# EAGLE library part 4042 (library _mtvl.40xx)
Quad clocked D LATCH
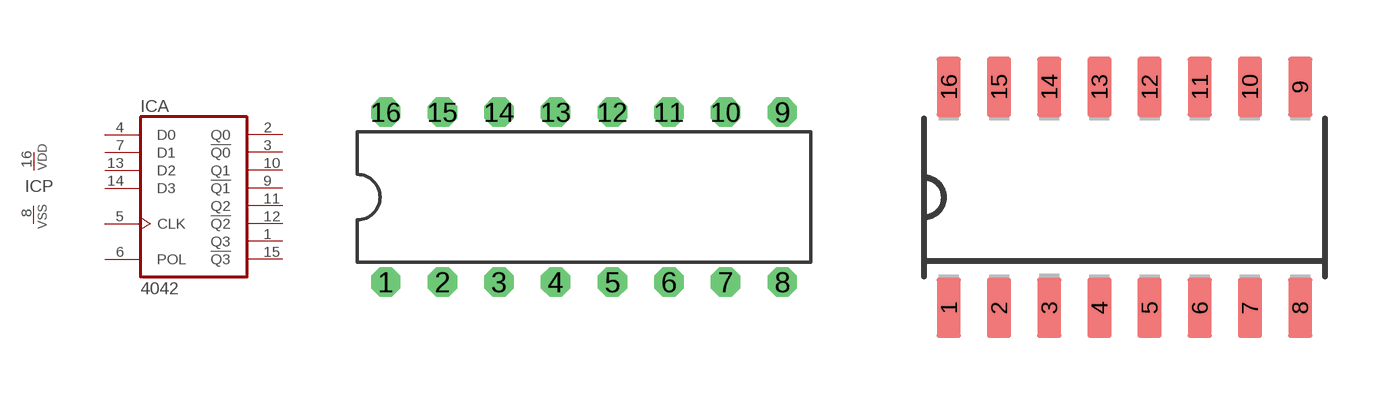
[diagram p27: symbol with the pads of DIL16; footprints DIL16, SO16]

Designator prefix IC; gates A=4042 P=PWRN

## 4042N  [DIL16]
1  A:Q3  out
2  A:Q0  out
3  A:!Q0  out
4  A:D0  in
5  A:CLK  in
6  A:POL  in
7  A:D1  in
8  P:VSS  pwr
9  A:!Q1  out
10  A:Q1  out
11  A:Q2  out
12  A:!Q2  out
13  A:D2  in
14  A:D3  in
15  A:!Q3  out
16  P:VDD  pwr

## 4042D  [SO16]
Pads as for DIL16

## Footprint DIL16 (pad centres in mm)
Dual In Line Package
drill 0.813 octagon: 1 -8.89,-3.81; 2 -6.35,-3.81; 3 -3.81,-3.81; 4 -1.27,-3.81; 5 1.27,-3.81; 6 3.81,-3.81; 7 6.35,-3.81; 8 8.89,-3.81; 9 8.89,3.81; 10 6.35,3.81; 11 3.81,3.81; 12 1.27,3.81; 13 -1.27,3.81; 14 -3.81,3.81; 15 -6.35,3.81; 16 -8.89,3.81

## Footprint SO16 (pad centres in mm)
Small Outline package 150 mil
smd 0.61 x 1.524: 1 -4.445,-2.794; 2 -3.175,-2.794; 3 -1.905,-2.794; 4 -0.635,-2.794; 5 0.635,-2.794; 6 1.905,-2.794; 7 3.175,-2.794; 8 4.445,-2.794; 9 4.445,2.794; 10 3.175,2.794; 11 1.905,2.794; 12 0.635,2.794; 13 -0.635,2.794; 14 -1.905,2.794; 15 -3.175,2.794; 16 -4.445,2.794